# EAGLE library part 74*373 (library IC)
Octal 3-State Non-Inverting Transparent Latch
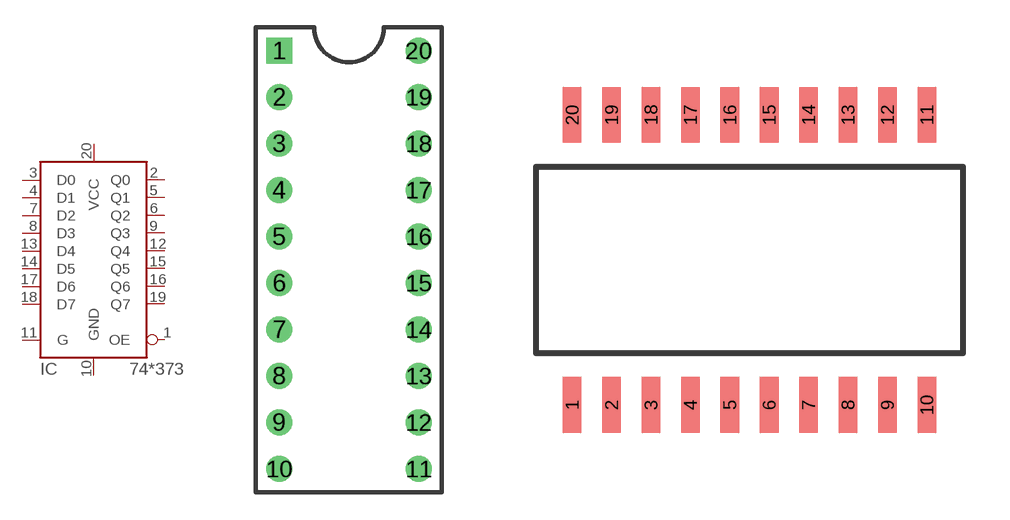
[diagram p19: symbol with the pads of DIP-20C; footprints DIP-20C, SOIC20]

Designator prefix IC

## 74ACT373N, 74AHC373N, 74HC373N, 74HCT373N  [DIP-20C]
1  OE
2  Q0
3  D0
4  D1
5  Q1
6  Q2
7  D2
8  D3
9  Q3
10  GND  pwr
11  G
12  Q4
13  D4
14  D5
15  Q5
16  Q6
17  D6
18  D7
19  Q7
20  VCC  pwr

## 74ACT373D, 74AHC373D, 74HC373D, 74HCT373D  [SOIC20]
Pads as for DIP-20C

## Footprint DIP-20C (pad centres in mm)
drill 0.889 square: 1 -3.81,11.43
drill 0.889 round: 2 -3.81,8.89; 3 -3.81,6.35; 4 -3.81,3.81; 5 -3.81,1.27; 6 -3.81,-1.27; 7 -3.81,-3.81; 8 -3.81,-6.35; 9 -3.81,-8.89; 10 -3.81,-11.43; 11 3.81,-11.43; 12 3.81,-8.89; 13 3.81,-6.35; 14 3.81,-3.81; 15 3.81,-1.27; 16 3.81,1.27; 17 3.81,3.81; 18 3.81,6.35; 19 3.81,8.89; 20 3.81,11.43

## Footprint SOIC20 (pad centres in mm)
SOIC-20, 1.27mm pitch, 10.55mm width, 12.95mm length
smd 0.6 x 1.8: 1 -5.715,-4.679; 2 -4.445,-4.679; 3 -3.175,-4.679; 4 -1.905,-4.679; 5 -0.635,-4.679; 6 0.635,-4.679; 7 1.905,-4.679; 8 3.175,-4.679; 9 4.445,-4.679; 10 5.715,-4.679; 11 5.715,4.679; 12 4.445,4.679; 13 3.175,4.679; 14 1.905,4.679; 15 0.635,4.679; 16 -0.635,4.679; 17 -1.905,4.679; 18 -3.175,4.679; 19 -4.445,4.679; 20 -5.715,4.679